# EAGLE library part LM4140-SO8 (library lm4140)
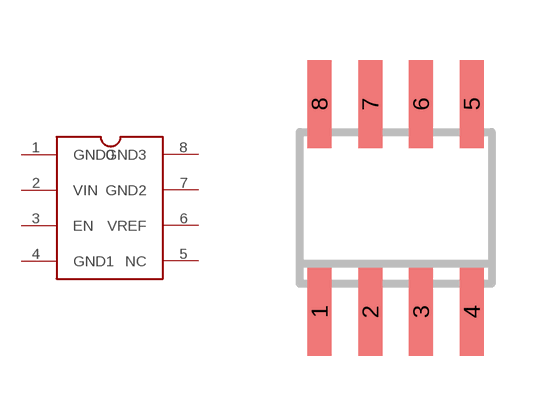
[diagram p0: symbol with the pads of SOIC8; footprint SOIC8]

Designator prefix -

## LM4140-SO8  [SOIC8]
1  GND0  pwr
2  VIN  pwr
3  EN  in
4  GND1  pwr
5  NC  nc
6  VREF  out
7  GND2  pwr
8  GND3  pwr

## Footprint SOIC8 (pad centres in mm)
Small Outline IC
smd 0.6 x 2.2: 1 -1.905,-2.6; 2 -0.635,-2.6; 3 0.635,-2.6; 4 1.905,-2.6; 5 1.905,2.6; 6 0.635,2.6; 7 -0.635,2.6; 8 -1.905,2.6